# EAGLE library part SIMM72 (library 68komputer)
72-pin DRAM SIMM Connector Pinout <http://pinouts.ru/Memory/Simm72_pinout.shtml>
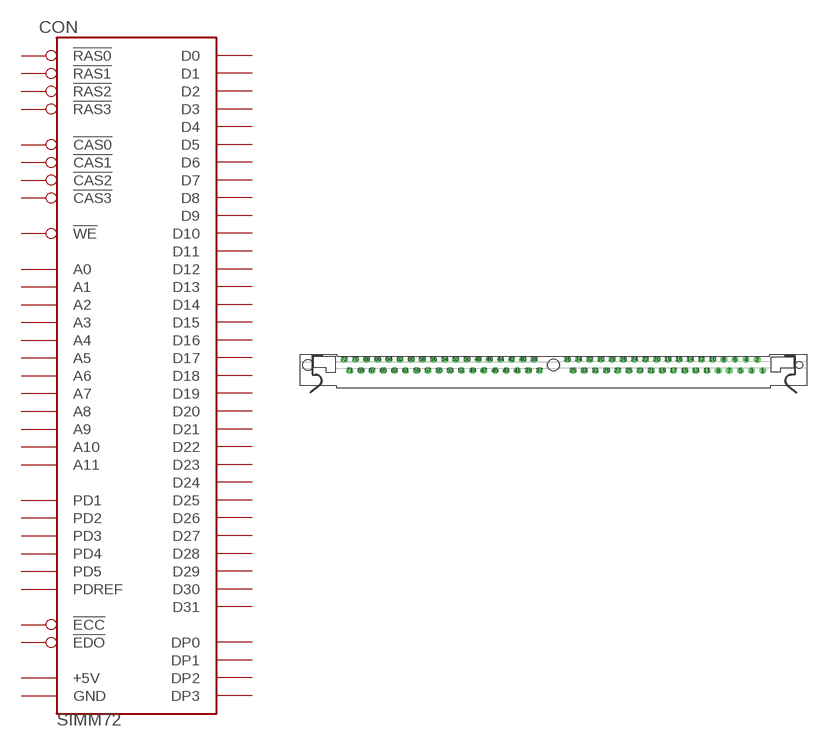
[diagram p19: symbol with the pads of 73826962; footprint 73826962]

Designator prefix CON

## SIMM72  [73826962]
1  GND  pwr
2  D0
3  D16
4  D1
5  D17
6  D2
7  D18
8  D3
9  D19
10  +5V  pwr
11  PD5  pas
12  A0  in
13  A1  in
14  A2  in
15  A3  in
16  A4  in
17  A5  in
18  A6  in
19  A10  in
20  D4
21  D20
22  D5
23  D21
24  D6
25  D22
26  D7
27  D23
28  A7  in
29  A11  in
30  +5V  pwr
31  A8  in
32  A9  in
33  !RAS3  in
34  !RAS2  in
35  DP2
36  DP0
37  DP1
38  DP3
39  GND  pwr
40  !CAS0  in
41  !CAS2  in
42  !CAS3
43  !CAS1  in
44  !RAS0  in
45  !RAS1  in
47  !WE  in
48  !ECC  pas
49  D8
50  D24
51  D9
52  D25
53  D10
54  D26
55  D11
56  D27
57  D12
58  D28
59  +5V  pwr
60  D29
61  D13
62  D30
63  D14
64  D31
65  D15
66  !EDO  pas
67  PD1  pas
68  PD2  pas
69  PD3  pas
70  PD4  pas
71  PDREF  pas
72  GND  pwr

## Footprint 73826962 (pad centres in mm)
SIMM II Socket
drill 1.016: 1 47.625,-1.27
drill 1.016 octagon: 2 46.355,1.27; 3 45.085,-1.27; 4 43.815,1.27; 5 42.545,-1.27; 6 41.275,1.27; 7 40.005,-1.27; 8 38.735,1.27; 9 37.465,-1.27; 10 36.195,1.27; 11 34.925,-1.27; 12 33.655,1.27; 13 32.385,-1.27; 14 31.115,1.27; 15 29.845,-1.27; 16 28.575,1.27; 17 27.305,-1.27; 18 26.035,1.27; 19 24.765,-1.27; 20 23.495,1.27; 21 22.225,-1.27; 22 20.955,1.27; 23 19.685,-1.27; 24 18.415,1.27; 25 17.145,-1.27; 26 15.875,1.27; 27 14.605,-1.27; 28 13.335,1.27; 29 12.065,-1.27; 30 10.795,1.27; 31 9.525,-1.27; 32 8.255,1.27; 33 6.985,-1.27; 34 5.715,1.27; 35 4.445,-1.27; 36 3.175,1.27; 37 -3.175,-1.27; 38 -4.445,1.27; 39 -5.715,-1.27; 40 -6.985,1.27; 41 -8.255,-1.27; 42 -9.525,1.27; 43 -10.795,-1.27; 44 -12.065,1.27; 45 -13.335,-1.27; 46 -14.605,1.27; 47 -15.875,-1.27; 48 -17.145,1.27; 49 -18.415,-1.27; 50 -19.685,1.27; 51 -20.955,-1.27; 52 -22.225,1.27; 53 -23.495,-1.27; 54 -24.765,1.27; 55 -26.035,-1.27; 56 -27.305,1.27; 57 -28.575,-1.27; 58 -29.845,1.27; 59 -31.115,-1.27; 60 -32.385,1.27; 61 -33.655,-1.27; 62 -34.925,1.27; 63 -36.195,-1.27; 64 -37.465,1.27; 65 -38.735,-1.27; 66 -40.005,1.27; 67 -41.275,-1.27; 68 -42.545,1.27; 69 -43.815,-1.27; 70 -45.085,1.27; 71 -46.355,-1.27; 72 -47.625,1.27
hole 2.362 at -55.88,0
hole 1.575 at 55.88,0
hole 2.54 at 0,0